# Altium footprint library PCB - LEADED - SOP50P326X110-16N.PCBLIB: 1 footprints
Each footprint in its own frame and in the unit in brackets; x right, y up, seen from the top. Pads: shape width x height; smd on the part's side, far side on the other; paste and mask are expansions set on the pad; w line width, h text height; cw(c..) or ccw(c..) is an arc to the next point about the centre after c.
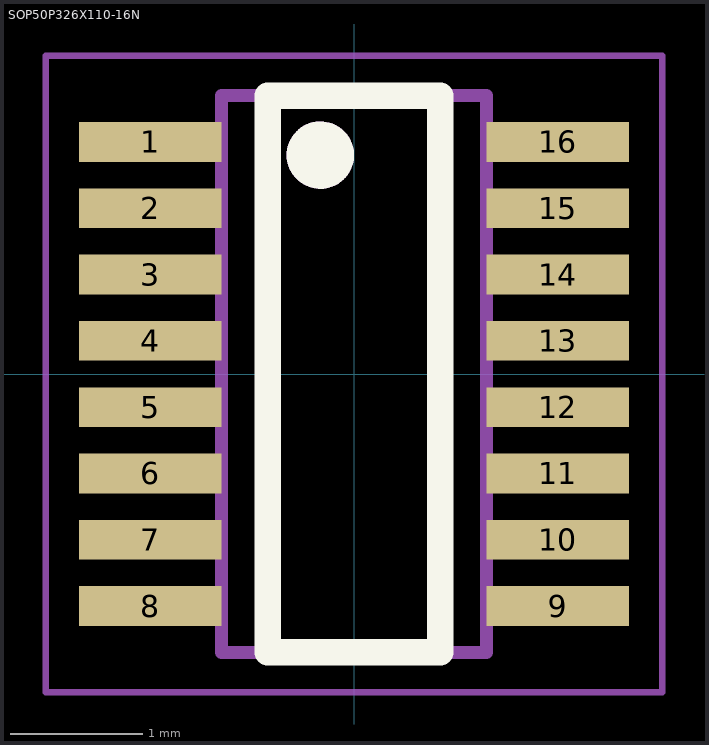
[diagram p0: the footprint, top view; thin cyan lines are the x and y axes]

## SOP50P326X110-16N [mm]
pads (16):
  rect 1.075x0.3 smd: 1(-1.538,1.75) 2(-1.538,1.25) 3(-1.538,0.75) 4(-1.538,0.25) 5(-1.538,-0.25) 6(-1.538,-0.75) 7(-1.538,-1.25) 8(-1.538,-1.75) 9(1.538,-1.75) 10(1.538,-1.25) 11(1.538,-0.75) 12(1.538,-0.25) 13(1.538,0.25) 14(1.538,0.75) 15(1.538,1.25) 16(1.538,1.75)
Top Overlay:
  circle w0.254: c-0.254,1.651 r0.127
  lines w0.2: -0.65,-2.1 0.65,-2.1 0.65,2.1 -0.65,2.1 -0.65,-2.1
Top Assembly:
  circle w0.254: c-0.254,1.651 r0.127
  lines w0.1: -1,-2.1 -1,2.1 1,2.1 1,-2.1 -1,-2.1
Top Courtyard:
  lines w0.05: -2.325,-2.4 -2.325,2.4 2.325,2.4 2.325,-2.4 -2.325,-2.4
Top Designator:
  text ".Designator" at -2.286,3.683 h1
Top Value (Mech13):
  text ".Comment" at -2.286,2.794 h1
3D body "TMUX1309QDYYRQ1.stp": height 1.1, standoff 0, extent -1.63,-2.1 1.63,2.1